# Altium schematic symbol library DC Power Jack PJ1-021.Schlib: 1 symbol
Pins are listed as number, name and electrical type; pins without a type are passive.

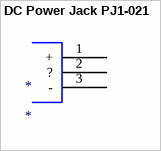
[diagram p0: symbol DC Power Jack PJ1-021]

## DC Power Jack PJ1-021
designator *
pins: 1 +, 2 ?, 3 -